# Altium integrated library DCM3623x50T17A6y7z.IntLib: 1 symbol
Pins are listed as number, name and electrical type; pins without a type are passive.

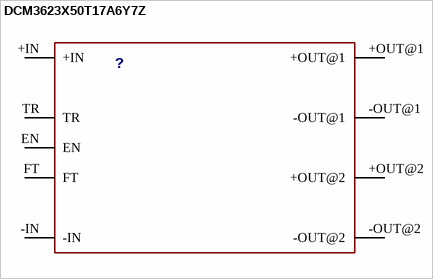
[diagram p0: symbol DCM3623X50T17A6Y7Z]

## DCM3623X50T17A6Y7Z
designator ?
GateName_1: G$1; SymbolName_1: DCM3623X50T17A6Y7Z; LibraryName: DCM3623x50T17A6y7z; DeviceSetName: DCM3623X50T17A6Y7Z; Package: 3623_THROUGH-HOLE_CHIP
footprint 3623_THROUGH-HOLE_CHIP
pins: +IN, +OUT@1, +OUT@2, -IN, -OUT@1, -OUT@2, EN, FT, TR